# Altium integrated library HTLinn_Opto.IntLib: 11 symbols
Pins are listed as number, name and electrical type; pins without a type are passive.

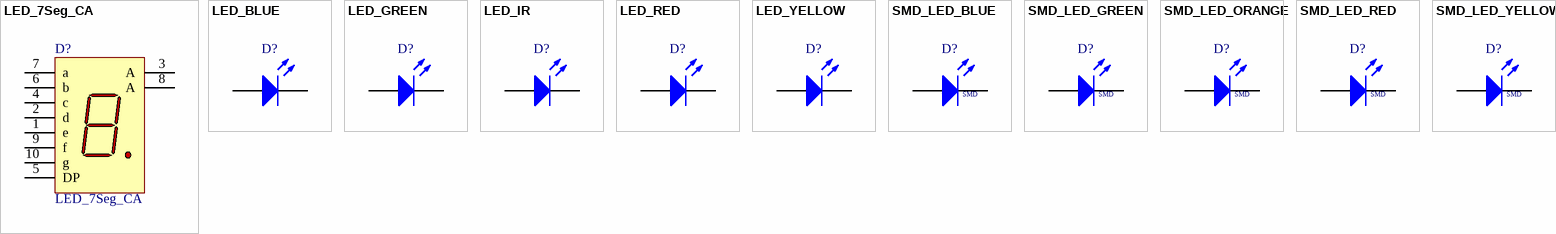
[diagram p0: symbols LED_7Seg_CA to SMD_LED_YELLOW]

## LED_7Seg_CA
designator D?
Red 7-Segment Display, CA, 13 mm Slim Font; SimulationModellSource: currently not available; Usage: only permitted for non-commercial purposes at HTL I Innsbruck; Published: 21-Sep-2017; LatestRevisionDate: 21-Sep-2017
footprint LED_7Seg (LED, 7-Segment Display, 13 mm)
pins: 1 e "Cathode", 2 d "Cathode", 3 A "Common Anode", 4 c "Cathode", 5 DP "Cathode", 6 b "Cathode", 7 a "Cathode", 8 A "Common Anode", 9 f "Cathode", 10 g "Cathode"

## LED_BLUE
designator D?, comment LED BLUE  (value not drawn)
Blue SiC LED (Vf=3.4V, If=40mA); Usage: only permitted for non-commercial purposes at HTL I Innsbruck; SimulationModellSource: Miscellaneous Devices; Published: 21-Feb-2011; LatestRevisionDate: 01-Nov-2013
footprint LED_3MM (LED 3mm)
simulation model LED_BLUE (Diode)
footprint LED_5MM (LED 5mm)
footprint LED_5MM - blue (LED 5mm)
footprint LED_5MM - clear (LED 5mm)
pins: A, K

## LED_GREEN
designator D?, comment LED GREEN  (value not drawn)
Green GaAs LED (Vf=2.1V, If=40mA); Usage: only permitted for non-commercial purposes at HTL I Innsbruck; SimulationModellSource: Miscellaneous Devices; Published: 21-Feb-2011; LatestRevisionDate: 01-Nov-2013
footprint LED_3MM (LED 3mm)
simulation model LED_GRN_YEL (Diode)
footprint LED_5MM (LED 5mm)
footprint LED_3MM - green (LED 3mm)
footprint LED_5MM - clear (LED 5mm)
footprint LED_5MM - green (LED 5mm)
pins: A, K

## LED_IR
designator D?, comment LED IR  (value not drawn)
Infrared GaAs LED (Vf=1.2V, If=40mA); Usage: only permitted for non-commercial purposes at HTL I Innsbruck; SimulationModellSource: Miscellaneous Devices; Published: 21-Feb-2011; LatestRevisionDate: 01-Nov-2013
footprint LED_3MM (LED 3mm)
simulation model LED_IR (Diode)
footprint LED_5MM (LED 5mm)
footprint LED_5MM - clear (LED 5mm)
pins: A, K

## LED_RED
designator D?, comment LED RED  (value not drawn)
Red GaAs LED (Vf=1.7V, If=40mA); Usage: only permitted for non-commercial purposes at HTL I Innsbruck; SimulationModellSource: Miscellaneous Devices; Published: 21-Feb-2011; LatestRevisionDate: 01-Nov-2013
footprint LED_3MM (LED 3mm)
simulation model LED_RED (Diode)
footprint LED_5MM (LED 5mm)
footprint LED_3MM - red (LED 3mm)
footprint LED_5MM - clear (LED 5mm)
footprint LED_5MM - red (LED 5mm)
pins: A, K

## LED_YELLOW
designator D?, comment LED YELLOW  (value not drawn)
Yellow GaAs LED (Vf=2.1V, If=40mA); Usage: only permitted for non-commercial purposes at HTL I Innsbruck; SimulationModellSource: Miscellaneous Devices; Published: 21-Feb-2011; LatestRevisionDate: 01-Nov-2013
footprint LED_3MM (LED 3mm)
simulation model LED_GRN_YEL (Diode)
footprint LED_5MM (LED 5mm)
footprint LED_3MM - yellow (LED 3mm)
footprint LED_5MM - clear (LED 5mm)
footprint LED_5MM - yellow (LED 5mm)
pins: A, K

## SMD_LED_BLUE
designator D?, comment SMD LED BLUE  (value not drawn)
Blue SiC LED (Vf=3.4V, If=40mA); Usage: only permitted for non-commercial purposes at HTL I Innsbruck; SimulationModellSource: Miscellaneous Devices; Published: 29-Mar-2017; LatestRevisionDate: 21-Jun-2015
simulation model LED_BLUE (Diode)
footprint SMD_0603_CHIP-LED
footprint SMD_0805_CHIP-LED
footprint SMD_0805_CHIP-LED - BLUE
footprint SMD_1206_CHIP-LED
footprint SMD_3528 (Kingbright 3.5x2.8x1.9mm)
footprint SMD_PLCC2
pins: A, K
text: SMD

## SMD_LED_GREEN
designator D?, comment SMD LED GREEN  (value not drawn)
Green GaAs LED (Vf=2.1V, If=40mA); Usage: only permitted for non-commercial purposes at HTL I Innsbruck; SimulationModellSource: Miscellaneous Devices; Published: 29-Mar-2017; LatestRevisionDate: 21-Jun-2015
simulation model LED_GRN_YEL (Diode)
footprint SMD_0603_CHIP-LED
footprint SMD_0805_CHIP-LED
footprint SMD_0805_CHIP-LED - GREEN
footprint SMD_1206_CHIP-LED
footprint SMD_3528 (Kingbright 3.5x2.8x1.9mm)
footprint SMD_PLCC2
footprint SMD_0603_CHIP-LED - GREEN
pins: A, K
text: SMD

## SMD_LED_ORANGE
designator D?, comment SMD LED ORANGE  (value not drawn)
Orange LED; Usage: only permitted for non-commercial purposes at HTL I Innsbruck; SimulationModellSource: noSimModell available; Published: 29-Mar-2017; LatestRevisionDate: 21-Jun-2015
footprint SMD_0603_CHIP-LED
footprint SMD_0805_CHIP-LED
footprint SMD_0805_CHIP-LED - ORANGE
footprint SMD_1206_CHIP-LED
footprint SMD_3528 (Kingbright 3.5x2.8x1.9mm)
footprint SMD_PLCC2
pins: A, K
text: SMD

## SMD_LED_RED
designator D?, comment SMD LED RED  (value not drawn)
Red GaAs LED (Vf=1.7V, If=40mA); Usage: only permitted for non-commercial purposes at HTL I Innsbruck; SimulationModellSource: Miscellaneous Devices; Published: 29-Mar-2017; LatestRevisionDate: 21-Jun-2015
simulation model LED_RED (Diode)
footprint SMD_0603_CHIP-LED
footprint SMD_0805_CHIP-LED
footprint SMD_0805_CHIP-LED - RED
footprint SMD_1206_CHIP-LED
footprint SMD_3528 (Kingbright 3.5x2.8x1.9mm)
footprint SMD_PLCC2
footprint SMD_SOT-23 (SOT23, 3-Leads, Body 2.9x1.3mm, Pitch 0.95mm, Lead Span 2.3mm, IPC Low Density); pin to pad A>1 K>3
pins: A, K
text: SMD

## SMD_LED_YELLOW
designator D?, comment SMD LED YELLOW  (value not drawn)
Yellow GaAs LED (Vf=2.1V, If=40mA); Usage: only permitted for non-commercial purposes at HTL I Innsbruck; SimulationModellSource: Miscellaneous Devices; Published: 29-Mar-2017; LatestRevisionDate: 21-Jun-2015
simulation model LED_GRN_YEL (Diode)
footprint SMD_0603_CHIP-LED
footprint SMD_0805_CHIP-LED
footprint SMD_0805_CHIP-LED - YELLOW
footprint SMD_1206_CHIP-LED
footprint SMD_3528 (Kingbright 3.5x2.8x1.9mm)
footprint SMD_PLCC2
pins: A, K
text: SMD